# Altium footprint library TENSILITY_54-00127.PcbLib: 1 footprints
Each footprint in its own frame and in the unit in brackets; x right, y up, seen from the top. Pads: shape width x height; smd on the part's side, far side on the other; paste and mask are expansions set on the pad; w line width, h text height; cw(c..) or ccw(c..) is an arc to the next point about the centre after c.
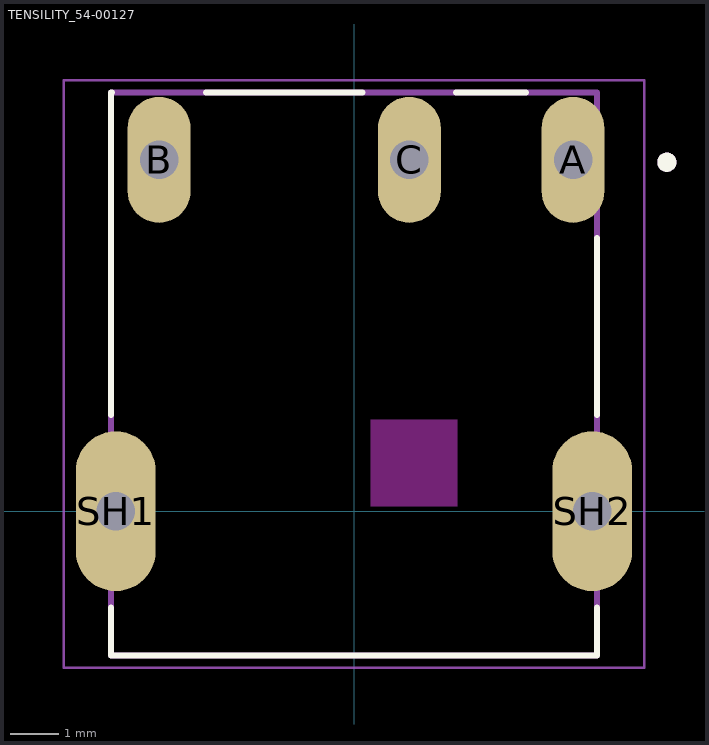
[diagram p0: the footprint, top view; thin cyan lines are the x and y axes]

## TENSILITY_54-00127 [mm]
height 7.3
pads (5):
  oval 1.308x2.616 hole 0.8 square mask+0.05: A(4.55,7.3) B(-4.05,7.3) C(1.15,7.3)
  oval 1.66x3.32 hole 0.8 square mask+0.05: SH1(-4.95,0) SH2(4.95,0)
Top Overlay:
  circle w0.2: c6.5,7.25 r0.1
  lines w0.127: -5.05,-2 -5.05,-3 5.05,-3 5.05,-2 ; -5.05,2 -5.05,8.7 -5.024,8.7 ; -3.076,8.7 0.176,8.7 ; 2.124,8.7 3.576,8.7 ; 5.05,2 5.05,5.672
Keep-Out Layer:
  board cut-out: 0.35,0.1 0.35,1.9 2.15,1.9 2.15,0.1
Mechanical 13:
  circle w0.2: c6.5,7.25 r0.1
  lines w0.127: -5.05,-3 5.05,-3 5.05,8.7 -5.05,8.7 -5.05,-3
Mechanical 15:
  lines w0.05: -6.03,-3.25 -6.03,8.95 6.03,8.95 6.03,-3.25 -6.03,-3.25
3D body "step_temp.STEP": height 7.3, standoff -2.5, extent -5.05,-3 5.05,8.7